# Altium schematic symbol library мс отечественные.SchLib: 20 symbols
Pins are listed as number, name and electrical type; pins without a type are passive.

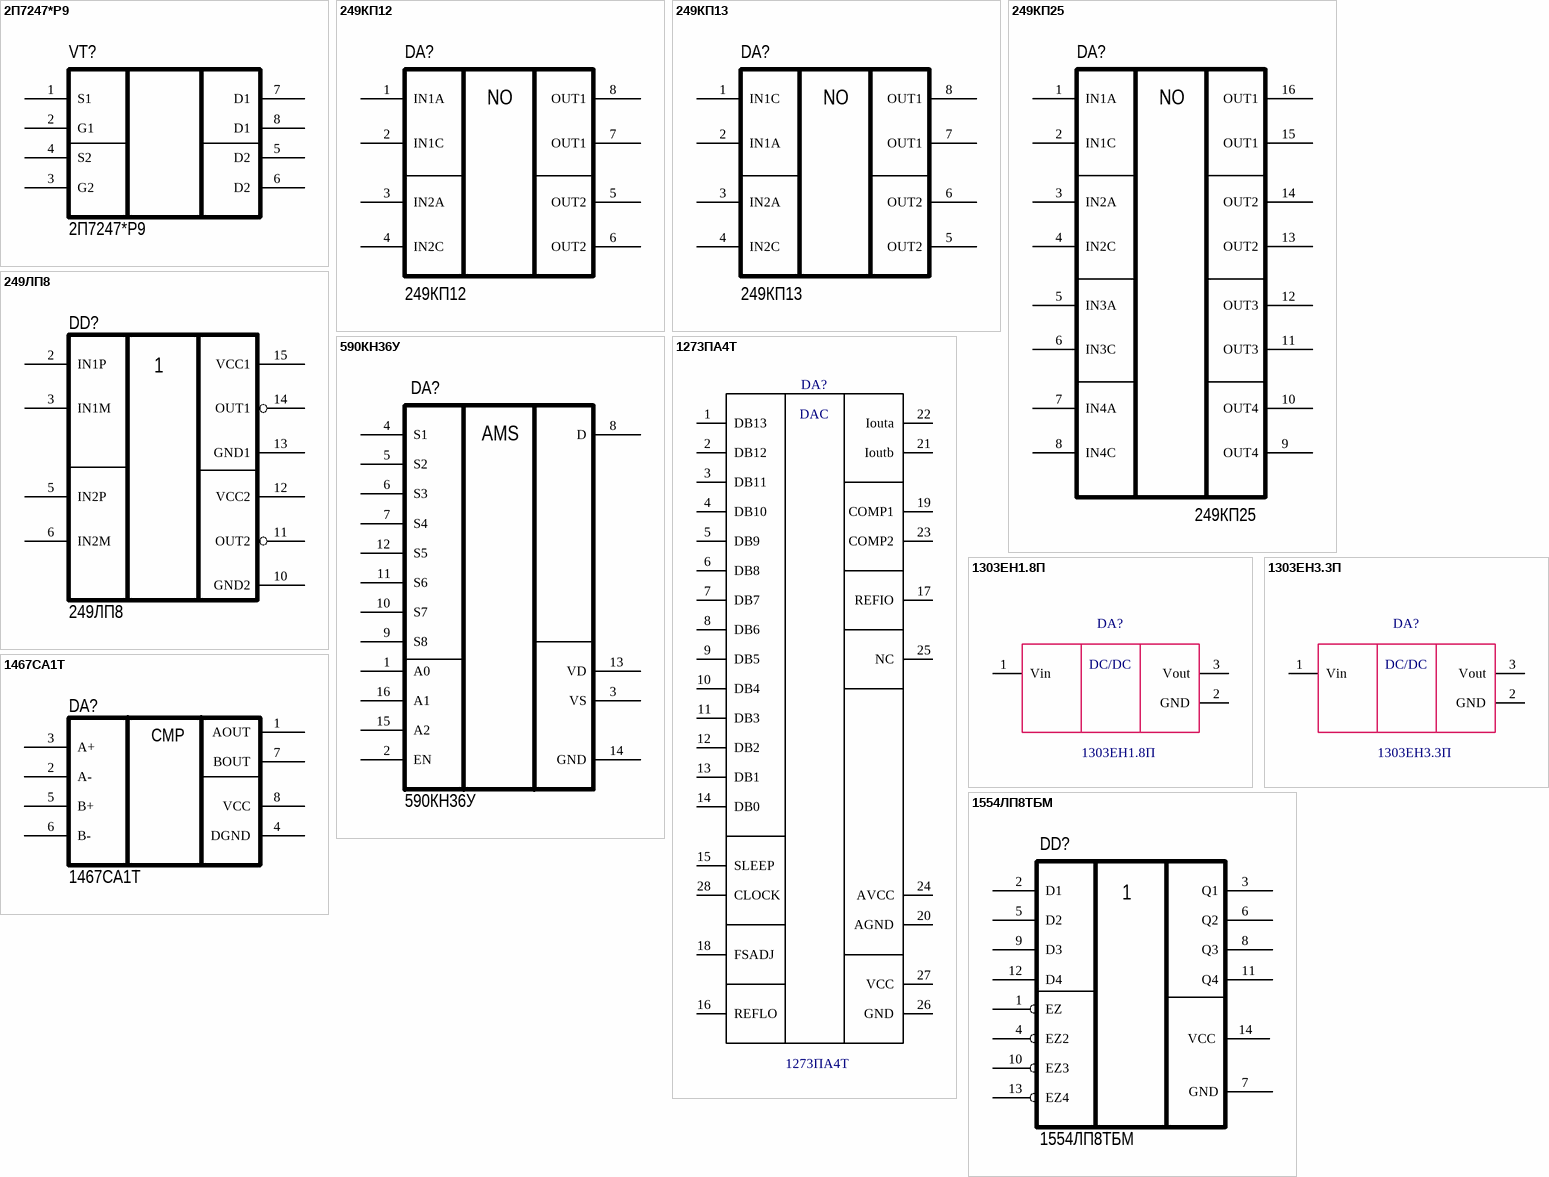
[diagram p0: symbols 2П7247*Р9 to 1554ЛП8ТБМ]

## 2П7247*Р9
designator VT?
footprint SOIC-8
pins: 1 S1, 2 G1, 3 G2, 4 S2, 5 D2, 6 D2, 7 D1, 8 D1

## 249КП12
designator DA?
footprint 2101.8-7
pins: 1 IN1A, 2 IN1C, 3 IN2A, 4 IN2C, 5 OUT2, 6 OUT2, 7 OUT1, 8 OUT1
text: NO

## 249КП13
designator DA?
footprint 2101.8-7
pins: 1 IN1C, 2 IN1A, 3 IN2A, 4 IN2C, 5 OUT2, 6 OUT2, 7 OUT1, 8 OUT1
text: NO

## 249КП25
designator DA?
footprint Model Name (Footprint not found)
pins: 1 IN1A, 2 IN1C, 3 IN2A, 4 IN2C, 5 IN3A, 6 IN3C, 7 IN4A, 8 IN4C, 9 OUT4, 10 OUT4, 11 OUT3, 12 OUT3, 13 OUT2, 14 OUT2, 15 OUT1, 16 OUT1
text: NO

## 249ЛП8
designator DD?
footprint 402.16-23
pins: 2 IN1P, 3 IN1M, 5 IN2P, 6 IN2M, 10 GND2, 11 OUT2, 12 VCC2, 13 GND1, 14 OUT1, 15 VCC1
text: 1

## 590КН36У
designator DA?
footprint H04.16-1B
pins: 1 A0, 2 EN, 3 VS, 4 S1, 5 S2, 6 S3, 7 S4, 8 D, 9 S8, 10 S7, 11 S6, 12 S5, 13 VD, 14 GND, 15 A2, 16 A1
text: AMS

## 1273ПА4Т
designator DA?
pins: 1 DB13, 2 DB12, 3 DB11, 4 DB10, 5 DB9, 6 DB8, 7 DB7, 8 DB6, 9 DB5, 10 DB4, 11 DB3, 12 DB2, 13 DB1, 14 DB0, 15 SLEEP, 16 REFLO, 17 REFIO, 18 FSADJ, 19 COMP1, 20 AGND, 21 Ioutb, 22 Iouta, 23 COMP2, 24 AVCC, 25 NC, 26 GND, 27 VCC, 28 CLOCK
text: DAC

## 1303ЕН1.8П
designator DA?
pins: 1 Vin, 2 GND, 3 Vout
text: DC/DC

## 1303ЕН3.3П
designator DA?
footprint KT-28A-2_02-1
pins: 1 Vin, 2 GND, 3 Vout
text: DC/DC

## 1467СА1Т
designator DA?
pins: 1 AOUT, 2 A-, 3 A+, 4 DGND, 5 B+, 6 B-, 7 BOUT, 8 VCC
text: CMP

## 1554ЛП8ТБМ
designator DD?
footprint 401.14-5
pins: 1 EZ, 2 D1, 3 Q1, 4 EZ2, 5 D2, 6 Q2, 7 GND, 8 Q3, 9 D3, 10 EZ3, 11 Q4, 12 D4, 13 EZ4, 14 VCC

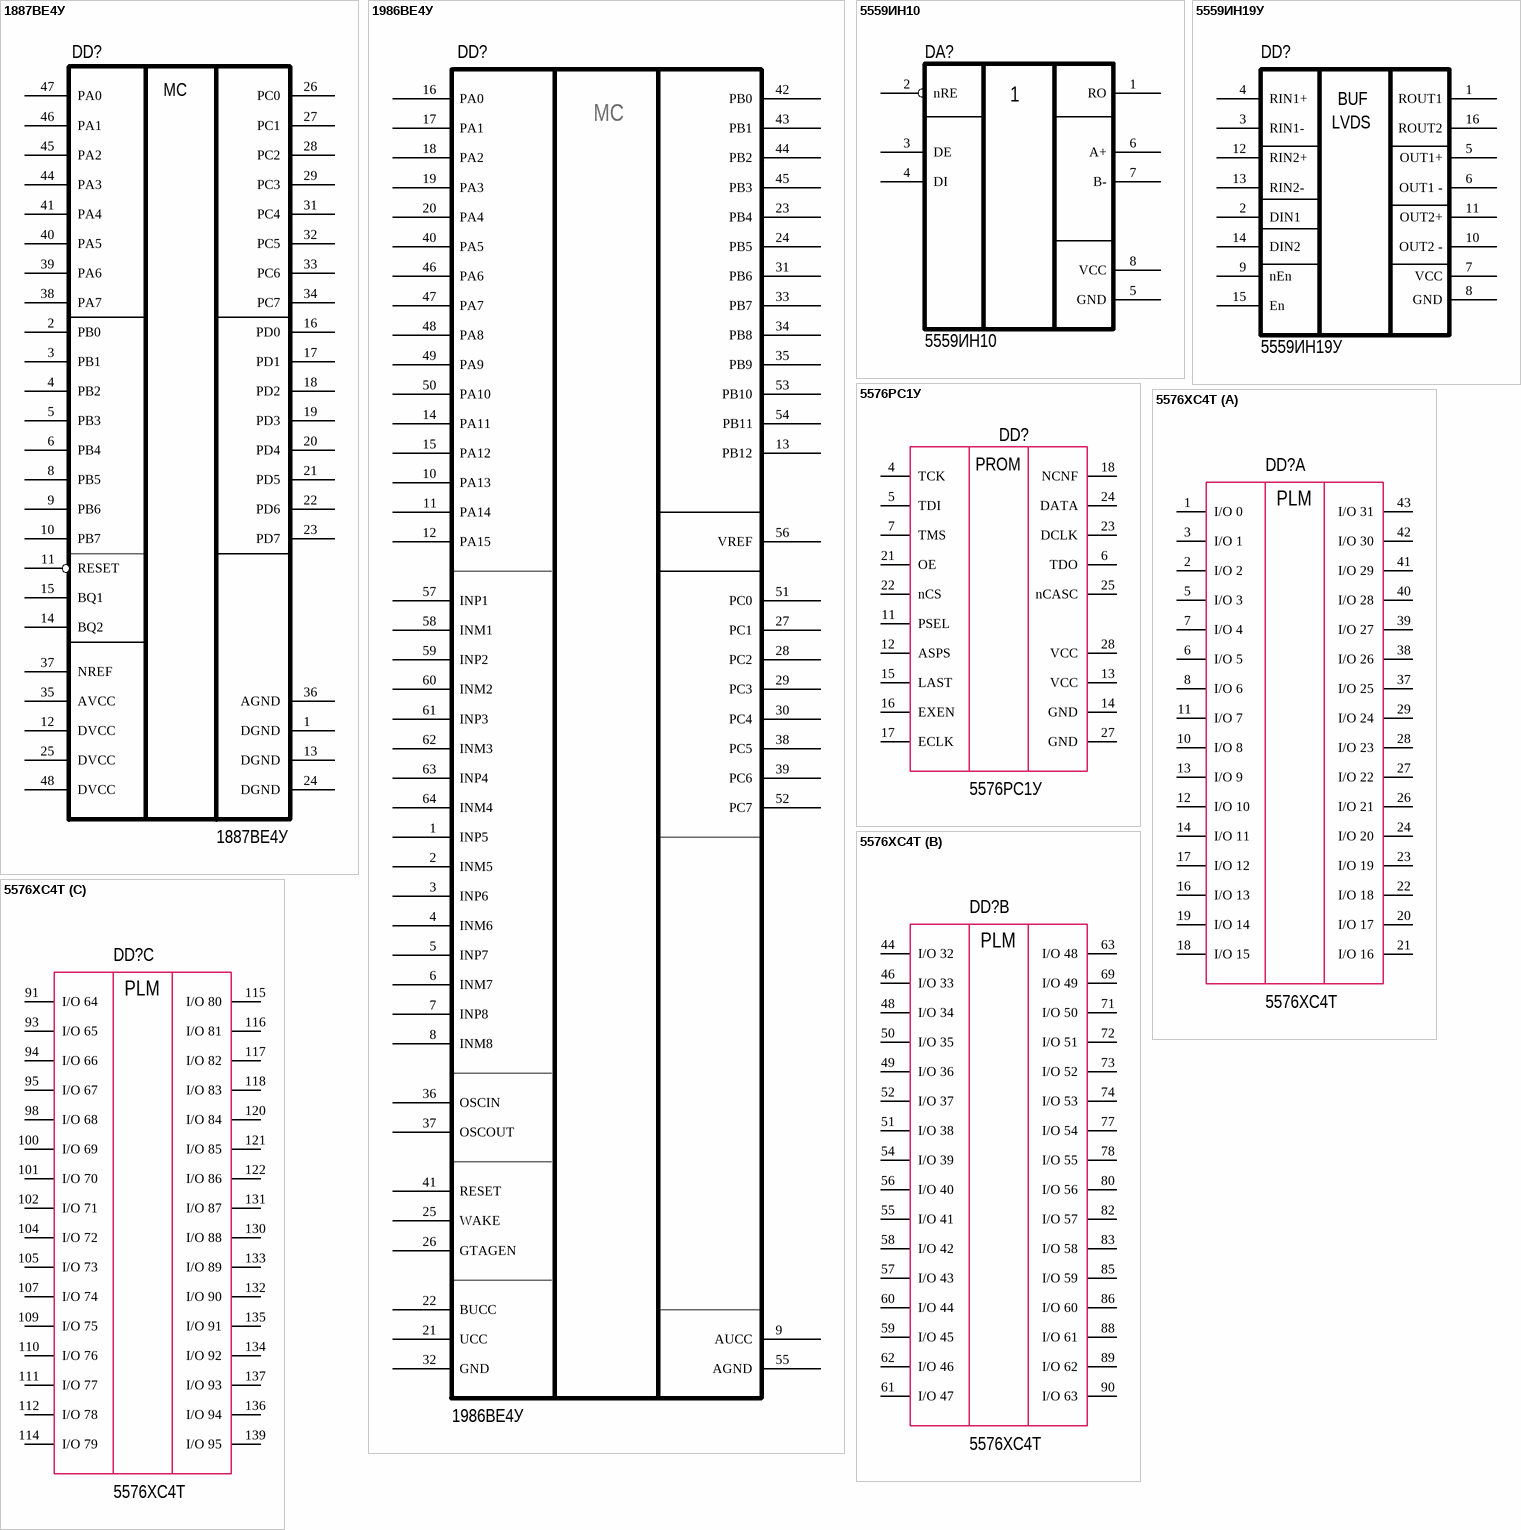
[diagram p1: symbols 1887ВЕ4У to 5576ХС4T]

## 1887ВЕ4У
designator DD?
footprint H16.48-2B
pins: 1 DGND, 2 PB0, 3 PB1, 4 PB2, 5 PB3, 6 PB4, 8 PB5, 9 PB6, 10 PB7, 11 RESET, 12 DVCC, 13 DGND, 14 BQ2, 15 BQ1, 16 PD0, 17 PD1, 18 PD2, 19 PD3, 20 PD4, 21 PD5, 22 PD6, 23 PD7, 24 DGND, 25 DVCC, 26 PC0, 27 PC1, 28 PC2, 29 PC3, 31 PC4, 32 PC5, 33 PC6, 34 PC7, 35 AVCC, 36 AGND, 37 NREF, 38 PA7, 39 PA6, 40 PA5, 41 PA4, 44 PA3, 45 PA2, 46 PA1, 47 PA0, 48 DVCC
text: MC

## 1986ВЕ4У
designator DD?
pins: 1 INP5, 2 INM5, 3 INP6, 4 INM6, 5 INP7, 6 INM7, 7 INP8, 8 INM8, 9 AUCC, 10 PA13, 11 PA14, 12 PA15, 13 PB12, 14 PA11, 15 PA12, 16 PA0, 17 PA1, 18 PA2, 19 PA3, 20 PA4, 21 UCC, 22 BUCC, 23 PB4, 24 PB5, 25 WAKE, 26 GTAGEN, 27 PC1, 28 PC2, 29 PC3, 30 PC4, 31 PB6, 32 GND, 33 PB7, 34 PB8, 35 PB9, 36 OSCIN, 37 OSCOUT, 38 PC5, 39 PC6, 40 PA5, 41 RESET, 42 PB0, 43 PB1, 44 PB2, 45 PB3, 46 PA6, 47 PA7, 48 PA8, 49 PA9, 50 PA10, 51 PC0, 52 PC7, 53 PB10, 54 PB11, 55 AGND, 56 VREF, 57 INP1, 58 INM1, 59 INP2, 60 INM2, 61 INP3, 62 INM3, 63 INP4, 64 INM4
text: MC

## 5559ИН10
designator DA?
footprint Н02.8-1В
pins: 1 RO, 2 nRE, 3 DE, 4 DI, 5 GND, 6 A+, 7 B-, 8 VCC

## 5559ИН19У
designator DD?
footprint Н02.16-1В
pins: 1 ROUT1, 2 DIN1, 3 RIN1-, 4 RIN1+, 5 OUT1+, 6 OUT1 -, 7 VCC, 8 GND, 9 nEn, 10 OUT2 -, 11 OUT2+, 12 RIN2+, 13 RIN2-, 14 DIN2, 15 En, 16 ROUT2
text: BUF; LVDS

## 5576РС1У
designator DD?
footprint Н09.28-1В
pins: 4 TCK, 5 TDI, 6 TDO, 7 TMS, 11 PSEL, 12 ASPS, 13 VCC, 14 GND, 15 LAST, 16 EXEN, 17 ECLK, 18 NCNF, 21 OE, 22 nCS, 23 DCLK, 24 DATA, 25 nCASC, 27 GND, 28 VCC
text: PROM

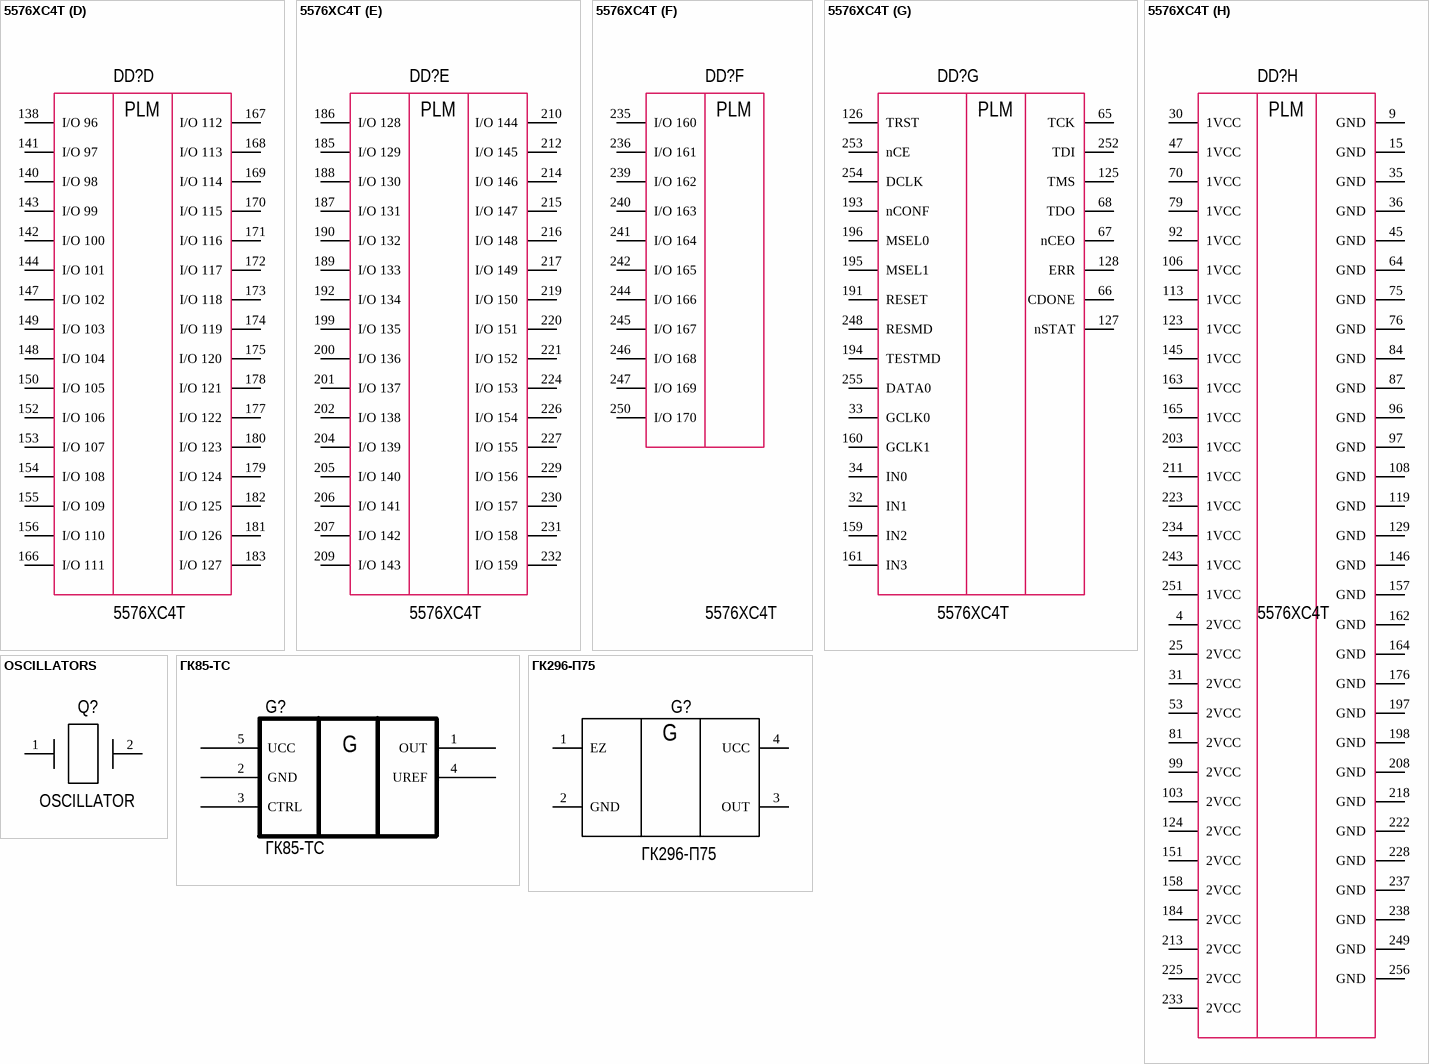
[diagram p2: symbols 5576ХС4T to ГК296-П75]

## 5576ХС4T
designator DD?
footprint 5576XC4T
part A pins: 1 I/O 0, 2 I/O 2, 3 I/O 1, 5 I/O 3, 6 I/O 5, 7 I/O 4, 8 I/O 6, 10 I/O 8, 11 I/O 7, 12 I/O 10, 13 I/O 9, 14 I/O 11, 16 I/O 13, 17 I/O 12, 18 I/O 15, 19 I/O 14, 20 I/O 17, 21 I/O 16, 22 I/O 18, 23 I/O 19, 24 I/O 20, 26 I/O 21, 27 I/O 22, 28 I/O 23, 29 I/O 24, 37 I/O 25, 38 I/O 26, 39 I/O 27, 40 I/O 28, 41 I/O 29, 42 I/O 30, 43 I/O 31
part B pins: 44 I/O 32, 46 I/O 33, 48 I/O 34, 49 I/O 36, 50 I/O 35, 51 I/O 38, 52 I/O 37, 54 I/O 39, 55 I/O 41, 56 I/O 40, 57 I/O 43, 58 I/O 42, 59 I/O 45, 60 I/O 44, 61 I/O 47, 62 I/O 46, 63 I/O 48, 69 I/O 49, 71 I/O 50, 72 I/O 51, 73 I/O 52, 74 I/O 53, 77 I/O 54, 78 I/O 55, 80 I/O 56, 82 I/O 57, 83 I/O 58, 85 I/O 59, 86 I/O 60, 88 I/O 61, 89 I/O 62, 90 I/O 63
part C pins: 91 I/O 64, 93 I/O 65, 94 I/O 66, 95 I/O 67, 98 I/O 68, 100 I/O 69, 101 I/O 70, 102 I/O 71, 104 I/O 72, 105 I/O 73, 107 I/O 74, 109 I/O 75, 110 I/O 76, 111 I/O 77, 112 I/O 78, 114 I/O 79, 115 I/O 80, 116 I/O 81, 117 I/O 82, 118 I/O 83, 120 I/O 84, 121 I/O 85, 122 I/O 86, 130 I/O 88, 131 I/O 87, 132 I/O 90, 133 I/O 89, 134 I/O 92, 135 I/O 91, 136 I/O 94, 137 I/O 93, 139 I/O 95
part D pins: 138 I/O 96, 140 I/O 98, 141 I/O 97, 142 I/O 100, 143 I/O 99, 144 I/O 101, 147 I/O 102, 148 I/O 104, 149 I/O 103, 150 I/O 105, 152 I/O 106, 153 I/O 107, 154 I/O 108, 155 I/O 109, 156 I/O 110, 166 I/O 111, 167 I/O 112, 168 I/O 113, 169 I/O 114, 170 I/O 115, 171 I/O 116, 172 I/O 117, 173 I/O 118, 174 I/O 119, 175 I/O 120, 177 I/O 122, 178 I/O 121, 179 I/O 124, 180 I/O 123, 181 I/O 126, 182 I/O 125, 183 I/O 127
part E pins: 185 I/O 129, 186 I/O 128, 187 I/O 131, 188 I/O 130, 189 I/O 133, 190 I/O 132, 192 I/O 134, 199 I/O 135, 200 I/O 136, 201 I/O 137, 202 I/O 138, 204 I/O 139, 205 I/O 140, 206 I/O 141, 207 I/O 142, 209 I/O 143, 210 I/O 144, 212 I/O 145, 214 I/O 146, 215 I/O 147, 216 I/O 148, 217 I/O 149, 219 I/O 150, 220 I/O 151, 221 I/O 152, 224 I/O 153, 226 I/O 154, 227 I/O 155, 229 I/O 156, 230 I/O 157, 231 I/O 158, 232 I/O 159
part F pins: 235 I/O 160, 236 I/O 161, 239 I/O 162, 240 I/O 163, 241 I/O 164, 242 I/O 165, 244 I/O 166, 245 I/O 167, 246 I/O 168, 247 I/O 169, 250 I/O 170
part G pins: 32 IN1, 33 GCLK0, 34 IN0, 65 TCK, 66 CDONE, 67 nCEO, 68 TDO, 125 TMS, 126 TRST, 127 nSTAT, 128 ERR, 159 IN2, 160 GCLK1, 161 IN3, 191 RESET, 193 nCONF, 194 TESTMD, 195 MSEL1, 196 MSEL0, 248 RESMD, 252 TDI, 253 nCE, 254 DCLK, 255 DATA0
part H pins: 4 2VCC, 9 GND, 15 GND, 25 2VCC, 30 1VCC, 31 2VCC, 35 GND, 36 GND, 45 GND, 47 1VCC, 53 2VCC, 64 GND, 70 1VCC, 75 GND, 76 GND, 79 1VCC, 81 2VCC, 84 GND, 87 GND, 92 1VCC, 96 GND, 97 GND, 99 2VCC, 103 2VCC, 106 1VCC, 108 GND, 113 1VCC, 119 GND, 123 1VCC, 124 2VCC, 129 GND, 145 1VCC, 146 GND, 151 2VCC, 157 GND, 158 2VCC, 162 GND, 163 1VCC, 164 GND, 165 1VCC, 176 GND, 184 2VCC, 197 GND, 198 GND, 203 1VCC, 208 GND, 211 1VCC, 213 2VCC, 218 GND, 222 GND, 223 1VCC, 225 2VCC, 228 GND, 233 2VCC, 234 1VCC, 237 GND, 238 GND, 243 1VCC, 249 GND, 251 1VCC, 256 GND
part A text: PLM
part B text: PLM
part C text: PLM
part D text: PLM
part E text: PLM
part F text: PLM
part G text: PLM
part H text: PLM

## OSCILLATORS
designator Q?, comment OSCILLATOR
footprint OSCILLATOR
pins: 1, 2

## ГК85-ТС
designator G?
footprint ГК85-ТС
pins: 1 OUT, 2 GND, 3 CTRL, 4 UREF, 5 UCC
text: G

## ГК296-П75
designator G?
КЖДГ.433526.001-03ТУ
footprint ГК296-П75
pins: 1 EZ, 2 GND, 3 OUT, 4 UCC
text: G